# EAGLE library part MCP4706 (library Nick's Personal Part)
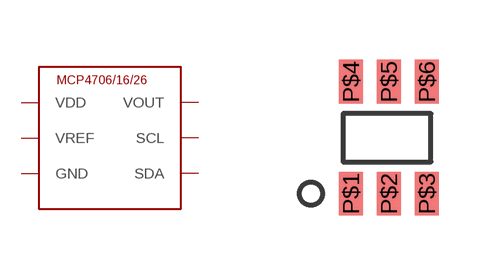
[diagram p5: symbol with the pads of SOT-23-6; footprint SOT-23-6]

Designator prefix -

## MCP4706  [SOT-23-6]
P$1  VOUT
P$2  GND
P$3  VDD
P$4  VREF
P$5  SCL
P$6  SDA

## Footprint SOT-23-6 (pad centres in mm)
smd 0.6 x 1.1: P$1 0,-2.8; P$2 0.95,-2.8; P$3 1.9,-2.8; P$4 0,0; P$5 0.95,0; P$6 1.9,0